# EAGLE library part G3VM-?2C (library optoelectronics)
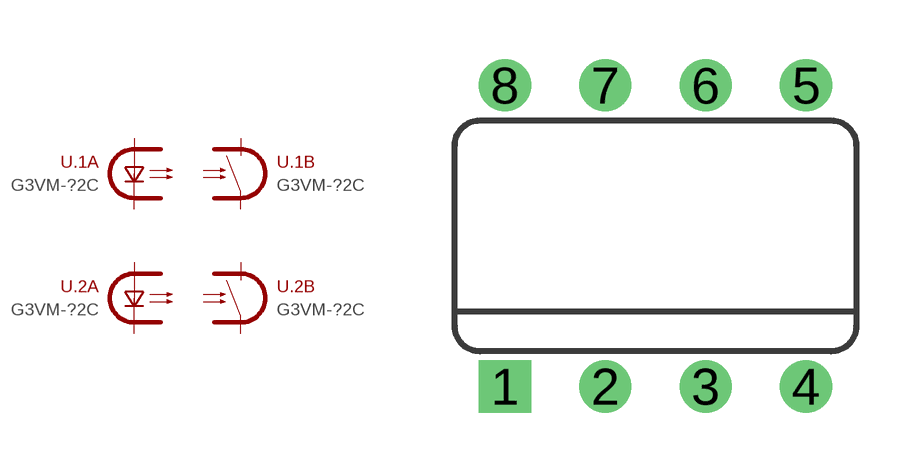
[diagram p1: symbol with the pads of DIL08; footprint DIL08]

Designator prefix U; gates .1A=OPTO-LED .2A=OPTO-LED .1B=OPTO-SSR .2B=OPTO-SSR

## G3VM-62C1 (MOUSER: 653-G3VM-62C1)  [DIL08]
1  .1A:A  pas
2  .1A:C  pas
3  .2A:A  pas
4  .2A:C  pas
5  .2B:S2  pas
6  .2B:S1  pas
7  .1B:S2  pas
8  .1B:S1  pas

## Footprint DIL08 (pad centres in mm)
Dual In Line Package
drill 0.813 square: 1 -3.81,-3.81
drill 0.813: 2 -1.27,-3.81; 3 1.27,-3.81; 4 3.81,-3.81; 5 3.81,3.81; 6 1.27,3.81; 7 -1.27,3.81; 8 -3.81,3.81